# EAGLE library part LM317 (library custom)
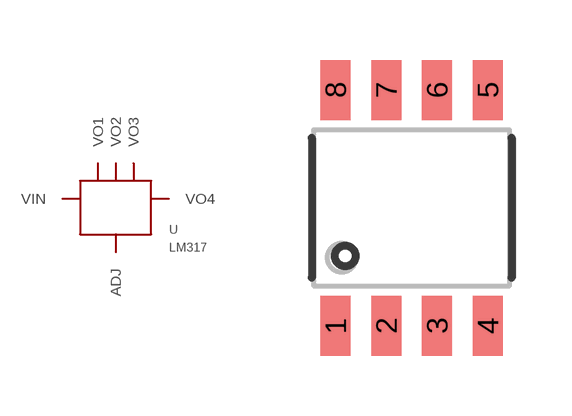
[diagram p18: symbol with the pads of 8-SOIC; footprint 8-SOIC]

Designator prefix -

## LM317LD  [8-SOIC]
1  VIN
2  VO1
3  VO2
4  ADJ
6  VO3
7  VO4

## Footprint 8-SOIC (pad centres in mm)
smd 0.75 x 1.5: 1 -1.905,-2.95; 2 -0.635,-2.95; 3 0.635,-2.95; 4 1.905,-2.95; 5 1.905,2.95; 6 0.635,2.95; 7 -0.635,2.95; 8 -1.905,2.95